# Altium footprint library esp8266.PcbLib: 17 footprints (part 2 of 2)
Each footprint in its own frame and in the unit in brackets; x right, y up, seen from the top. Pads: shape width x height; smd on the part's side, far side on the other; paste and mask are expansions set on the pad; w line width, h text height; cw(c..) or ccw(c..) is an arc to the next point about the centre after c.
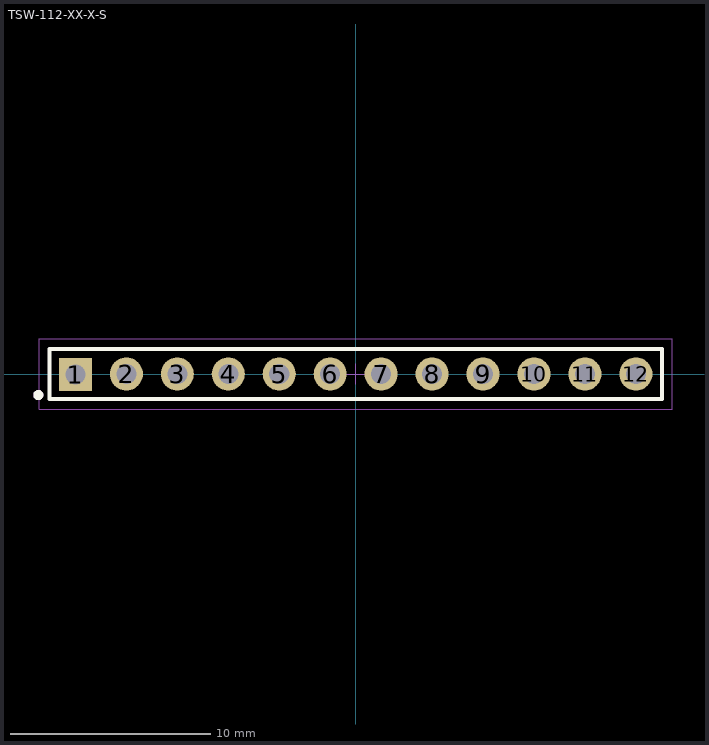
[diagram p1: the footprint, top view; thin cyan lines are the x and y axes]

## TSW-112-XX-X-S [mm] "2.54mm pitch, 12 pin, terminal strip; single row"
height 2.54
pads (12):
  rect 1.65x1.65 hole 1 mask+0: 1(-13.97,-0.025)
  round 1.65 hole 1 mask+0: 2(-11.43,0) 3(-8.89,0) 4(-6.35,0) 5(-3.81,0) 6(-1.27,0) 7(1.27,0) 8(3.81,0) 9(6.35,0) 10(8.89,0) 11(11.43,0) 12(13.97,0)
Top Overlay:
  circle w0.25: c-15.82,-1.05 r0.125
  lines w0.2: -15.27,-1.25 -15.27,1.25 15.28,1.25 15.28,-1.25 -15.27,-1.25
Mechanical 12:
  lines w0.001: -15.27,-1.25 -15.27,1.25 15.28,1.25 15.28,-1.25 -15.27,-1.25
Mechanical 13:
  circle w0.25: c-15.82,-1.05 r0.125
  lines w0.1: -15.27,-1.25 -15.27,1.25 15.28,1.25 15.28,-1.25 -15.27,-1.25
  text ".Designator" at 0,2 h1.52
Mechanical 15:
  lines w0.05: -0.5,0 0.5,0 ; 0,-0.5 0,0.5 ; -15.77,-1.75 -15.77,1.75 15.78,1.75 15.78,-1.75 -15.77,-1.75